# Altium schematic symbol library W25Q128JVP.SchLib: 1 symbol
Pins are listed as number, name and electrical type; pins without a type are passive.

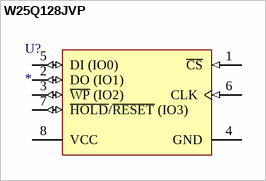
[diagram p0: symbol W25Q128JVP]

## W25Q128JVP
designator U?
FLASH - NOR Memory IC 128Mb (16M x 8) SPI - Quad I/O, QPI, DTR 133 MHz 8-WSON (6x5)
footprint SON127P500X600X80-9N
pins: 1 ~{CS} (in) "Chip Select Input.", 2 DO (IO1) (io) "Data Output (Data Input Output 1).", 3 ~{WP} (IO2) (io) "Write Protect Input (Data Input Output 2).", 4 GND (power) "Ground.", 5 DI (IO0) (io) "Data Input (Data Input Output 0).", 6 CLK (in) "Serial Clock Input.", 7 ~{HOLD}/~{RESET} (IO3) (io) "Hold or Reset Input (Data Input Output 3).", 8 VCC (power) "Power Supply."